# Altium integrated library Altium_WCAP-CSGP (rev22a).IntLib: 953 symbols (part 2 of 17)
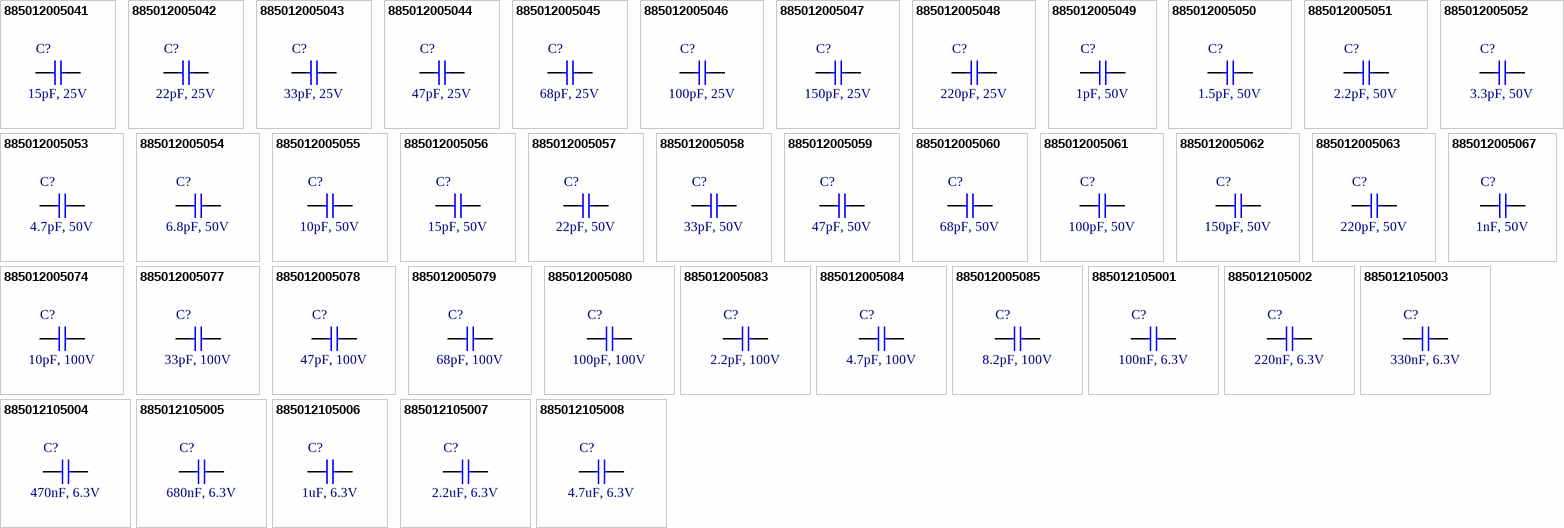
[diagram p28: symbols 885012005041 to 885012105008]

## 885012005061
designator C?, comment 100pF, 50V
WCAP-CSGP Multilayer Ceramic Chip Capacitor, General Purpose, size 0402, NP0, 100pF, 50V; Manufacturer: Wurth Elektronik; Manufacturer Part Number: 885012005061; Capacitance Tolerance: +/-5%; Isolation Resistance: 10GOhm; Q-Factor: 1000; Technical Reference: NP00402101J050DFCT10000; Capacitance: 100pF; Ceramic Type: NP0; ComponentLink1Description: Manufacturer Link; ComponentLink1URL: http://www.we-online.de; ComponentLink2Description: Datasheet; ComponentLink2URL: https://www.we-online.com/catalog/datasheet/885012005061.pdf; Height: 0.5mm; Length: 1mm; Mounting Technology: SMT; Operating Temperature max.: 125C; Operating Temperature min.: -55C; Packaging: Tape and Reel; Rated Voltage: 50V; Size: 0402; Width: 0.5mm
footprint WCAP-CSGP_0402_L1W0.5H0.5
pins: 1, 2

## 885012005062
designator C?, comment 150pF, 50V
WCAP-CSGP Multilayer Ceramic Chip Capacitor, General Purpose, size 0402, NP0, 150pF, 50V; Manufacturer: Wurth Elektronik; Manufacturer Part Number: 885012005062; Capacitance Tolerance: +/-5%; Isolation Resistance: 10GOhm; Q-Factor: 1000; Technical Reference: NP00402151J050DFCT10000; Capacitance: 150pF; Ceramic Type: NP0; ComponentLink1Description: Manufacturer Link; ComponentLink1URL: http://www.we-online.de; ComponentLink2Description: Datasheet; ComponentLink2URL: https://www.we-online.com/catalog/datasheet/885012005062.pdf; Height: 0.5mm; Length: 1mm; Mounting Technology: SMT; Operating Temperature max.: 125C; Operating Temperature min.: -55C; Packaging: Tape and Reel; Rated Voltage: 50V; Size: 0402; Width: 0.5mm
footprint WCAP-CSGP_0402_L1W0.5H0.5
pins: 1, 2

## 885012005063
designator C?, comment 220pF, 50V
WCAP-CSGP Multilayer Ceramic Chip Capacitor, General Purpose, size 0402, NP0, 220pF, 50V; Manufacturer: Wurth Elektronik; Manufacturer Part Number: 885012005063; Capacitance Tolerance: +/-5%; Isolation Resistance: 10GOhm; Q-Factor: 1000; Technical Reference: NP00402221J050DFCT10000; Capacitance: 220pF; Ceramic Type: NP0; ComponentLink1Description: Manufacturer Link; ComponentLink1URL: http://www.we-online.de; ComponentLink2Description: Datasheet; ComponentLink2URL: https://www.we-online.com/catalog/datasheet/885012005063.pdf; Height: 0.5mm; Length: 1mm; Mounting Technology: SMT; Operating Temperature max.: 125C; Operating Temperature min.: -55C; Packaging: Tape and Reel; Rated Voltage: 50V; Size: 0402; Width: 0.5mm
footprint WCAP-CSGP_0402_L1W0.5H0.5
pins: 1, 2

## 885012005067
designator C?, comment 1nF, 50V
WCAP-CSGP Multilayer Ceramic Chip Capacitor, General Purpose, size 0402, NP0, 1nF, 50V; Manufacturer: Wurth Elektronik; Manufacturer Part Number: 885012005067; Capacitance Tolerance: +/-5%; Isolation Resistance: 10GOhm; Q-Factor: 1000; Technical Reference: NP00402102J050DFCT10000; Capacitance: 1nF; Ceramic Type: NP0; ComponentLink1Description: Manufacturer Link; ComponentLink1URL: http://www.we-online.de; ComponentLink2Description: Datasheet; ComponentLink2URL: https://www.we-online.com/catalog/datasheet/885012005067.pdf; Height: 0.5mm; Length: 1mm; Mounting Technology: SMT; Operating Temperature max.: 125C; Operating Temperature min.: -55C; Packaging: Tape and Reel; Rated Voltage: 50V; Size: 0402; Width: 0.5mm
footprint WCAP-CSGP_0402_L1W0.5H0.5
pins: 1, 2

## 885012005074
designator C?, comment 10pF, 100V
WCAP-CSGP Multilayer Ceramic Chip Capacitor, General Purpose, size 0402, NP0, 10pF, 100V; Manufacturer: Wurth Elektronik; Manufacturer Part Number: 885012005074; Capacitance Tolerance: +/-5%; Isolation Resistance: 10GOhm; Q-Factor: 600; Technical Reference: NP00402100J100DFCT10000; Capacitance: 10pF; Ceramic Type: NP0; ComponentLink1Description: Manufacturer Link; ComponentLink1URL: http://www.we-online.de; ComponentLink2Description: Datasheet; ComponentLink2URL: https://www.we-online.com/catalog/datasheet/885012005074.pdf; Height: 0.5mm; Length: 1mm; Mounting Technology: SMT; Operating Temperature max.: 125C; Operating Temperature min.: -55C; Packaging: Tape and Reel; Rated Voltage: 100V; Size: 0402; Width: 0.5mm
footprint WCAP-CSGP_0402_L1W0.5H0.5
pins: 1, 2

## 885012005077
designator C?, comment 33pF, 100V
WCAP-CSGP Multilayer Ceramic Chip Capacitor, General Purpose, size 0402, NP0, 33pF, 100V; Manufacturer: Wurth Elektronik; Manufacturer Part Number: 885012005077; Capacitance Tolerance: +/-5%; Isolation Resistance: 10GOhm; Q-Factor: 1000; Technical Reference: NP00402330J100DFCT10000; Capacitance: 33pF; Ceramic Type: NP0; ComponentLink1Description: Manufacturer Link; ComponentLink1URL: http://www.we-online.de; ComponentLink2Description: Datasheet; ComponentLink2URL: https://www.we-online.com/catalog/datasheet/885012005077.pdf; Height: 0.5mm; Length: 1mm; Mounting Technology: SMT; Operating Temperature max.: 125C; Operating Temperature min.: -55C; Packaging: Tape and Reel; Rated Voltage: 100V; Size: 0402; Width: 0.5mm
footprint WCAP-CSGP_0402_L1W0.5H0.5
pins: 1, 2

## 885012005078
designator C?, comment 47pF, 100V
WCAP-CSGP Multilayer Ceramic Chip Capacitor, General Purpose, size 0402, NP0, 47pF, 100V; Manufacturer: Wurth Elektronik; Manufacturer Part Number: 885012005078; Capacitance Tolerance: +/-5%; Isolation Resistance: 10GOhm; Q-Factor: 1000; Technical Reference: NP00402470J100DFCT10000; Capacitance: 47pF; Ceramic Type: NP0; ComponentLink1Description: Manufacturer Link; ComponentLink1URL: http://www.we-online.de; ComponentLink2Description: Datasheet; ComponentLink2URL: https://www.we-online.com/catalog/datasheet/885012005078.pdf; Height: 0.5mm; Length: 1mm; Mounting Technology: SMT; Operating Temperature max.: 125C; Operating Temperature min.: -55C; Packaging: Tape and Reel; Rated Voltage: 100V; Size: 0402; Width: 0.5mm
footprint WCAP-CSGP_0402_L1W0.5H0.5
pins: 1, 2

## 885012005079
designator C?, comment 68pF, 100V
WCAP-CSGP Multilayer Ceramic Chip Capacitor, General Purpose, size 0402, NP0, 68pF, 100V; Manufacturer: Wurth Elektronik; Manufacturer Part Number: 885012005079; Capacitance Tolerance: +/-5%; Isolation Resistance: 10GOhm; Q-Factor: 1000; Technical Reference: NP00402680J100DFCT10000; Capacitance: 68pF; Ceramic Type: NP0; ComponentLink1Description: Manufacturer Link; ComponentLink1URL: http://www.we-online.de; ComponentLink2Description: Datasheet; ComponentLink2URL: https://www.we-online.com/catalog/datasheet/885012005079.pdf; Height: 0.5mm; Length: 1mm; Mounting Technology: SMT; Operating Temperature max.: 125C; Operating Temperature min.: -55C; Packaging: Tape and Reel; Rated Voltage: 100V; Size: 0402; Width: 0.5mm
footprint WCAP-CSGP_0402_L1W0.5H0.5
pins: 1, 2

## 885012005080
designator C?, comment 100pF, 100V
WCAP-CSGP Multilayer Ceramic Chip Capacitor, General Purpose, size 0402, NP0, 100pF, 100V; Manufacturer: Wurth Elektronik; Manufacturer Part Number: 885012005080; Capacitance Tolerance: +/-5%; Isolation Resistance: 10GOhm; Q-Factor: 1000; Technical Reference: NP00402101J100DFCT10000; Capacitance: 100pF; Ceramic Type: NP0; ComponentLink1Description: Manufacturer Link; ComponentLink1URL: http://www.we-online.de; ComponentLink2Description: Datasheet; ComponentLink2URL: https://www.we-online.com/catalog/datasheet/885012005080.pdf; Height: 0.5mm; Length: 1mm; Mounting Technology: SMT; Operating Temperature max.: 125C; Operating Temperature min.: -55C; Packaging: Tape and Reel; Rated Voltage: 100V; Size: 0402; Width: 0.5mm
footprint WCAP-CSGP_0402_L1W0.5H0.5
pins: 1, 2

## 885012005083
designator C?, comment 2.2pF, 100V
WCAP-CSGP Multilayer Ceramic Chip Capacitor, General Purpose, size 0402, NP0, 2.2pF, 100V; Manufacturer: Wurth Elektronik; Manufacturer Part Number: 885012005083; Capacitance Tolerance: +/-0.25pF; Isolation Resistance: 10GOhm; Q-Factor: 444; Technical Reference: NP004022R2C100DFCT10000; Capacitance: 2.2pF; Ceramic Type: NP0; ComponentLink1Description: Manufacturer Link; ComponentLink1URL: http://www.we-online.de; ComponentLink2Description: Datasheet; ComponentLink2URL: https://www.we-online.com/catalog/datasheet/885012005083.pdf; Height: 0.5mm; Length: 1mm; Mounting Technology: SMT; Operating Temperature max.: 125C; Operating Temperature min.: -55C; Packaging: Tape and Reel; Rated Voltage: 100V; Size: 0402; Width: 0.5mm
footprint WCAP-CSGP_0402_L1W0.5H0.5
pins: 1, 2

## 885012005084
designator C?, comment 4.7pF, 100V
WCAP-CSGP Multilayer Ceramic Chip Capacitor, General Purpose, size 0402, NP0, 4.7pF, 100V; Manufacturer: Wurth Elektronik; Manufacturer Part Number: 885012005084; Capacitance Tolerance: +/-0.25pF; Isolation Resistance: 10GOhm; Q-Factor: 494; Technical Reference: NP004024R7C100DFCT10000; Capacitance: 4.7pF; Ceramic Type: NP0; ComponentLink1Description: Manufacturer Link; ComponentLink1URL: http://www.we-online.de; ComponentLink2Description: Datasheet; ComponentLink2URL: https://www.we-online.com/catalog/datasheet/885012005084.pdf; Height: 0.5mm; Length: 1mm; Mounting Technology: SMT; Operating Temperature max.: 125C; Operating Temperature min.: -55C; Packaging: Tape and Reel; Rated Voltage: 100V; Size: 0402; Width: 0.5mm
footprint WCAP-CSGP_0402_L1W0.5H0.5
pins: 1, 2

## 885012005085
designator C?, comment 8.2pF, 100V
WCAP-CSGP Multilayer Ceramic Chip Capacitor, General Purpose, size 0402, NP0, 8.2pF, 100V; Manufacturer: Wurth Elektronik; Manufacturer Part Number: 885012005085; Capacitance Tolerance: +/-0.5pF; Isolation Resistance: 10GOhm; Q-Factor: 564; Technical Reference: NP004028R2D100DFCT10000; Capacitance: 8.2pF; Ceramic Type: NP0; ComponentLink1Description: Manufacturer Link; ComponentLink1URL: http://www.we-online.de; ComponentLink2Description: Datasheet; ComponentLink2URL: https://www.we-online.com/catalog/datasheet/885012005085.pdf; Height: 0.5mm; Length: 1mm; Mounting Technology: SMT; Operating Temperature max.: 125C; Operating Temperature min.: -55C; Packaging: Tape and Reel; Rated Voltage: 100V; Size: 0402; Width: 0.5mm
footprint WCAP-CSGP_0402_L1W0.5H0.5
pins: 1, 2

## 885012105001
designator C?, comment 100nF, 6.3V
WCAP-CSGP Multilayer Ceramic Chip Capacitor, General Purpose, size 0402, X5R, 100nF, 6.3V; Manufacturer: Wurth Elektronik; Manufacturer Part Number: 885012105001; Capacitance Tolerance: +/-20%; Dissipation Factor: 10%; Isolation Resistance: 1GOhm; Technical Reference: X5R0402104M6R3DFCT10000; Capacitance: 100nF; Ceramic Type: X5R; ComponentLink1Description: Manufacturer Link; ComponentLink1URL: http://www.we-online.de; ComponentLink2Description: Datasheet; ComponentLink2URL: https://www.we-online.com/catalog/datasheet/885012105001.pdf; Height: 0.5mm; Length: 1mm; Mounting Technology: SMT; Operating Temperature max.: 85C; Operating Temperature min.: -55C; Packaging: Tape and Reel; Rated Voltage: 6.3V; Size: 0402; Width: 0.5mm
footprint WCAP-CSGP_0402_L1W0.5H0.5
pins: 1, 2

## 885012105002
designator C?, comment 220nF, 6.3V
WCAP-CSGP Multilayer Ceramic Chip Capacitor, General Purpose, size 0402, X5R, 220nF, 6.3V; Manufacturer: Wurth Elektronik; Manufacturer Part Number: 885012105002; Capacitance Tolerance: +/-20%; Dissipation Factor: 10%; Isolation Resistance: 0.5GOhm; Technical Reference: X5R0402224M6R3DFCT10000; Capacitance: 220nF; Ceramic Type: X5R; ComponentLink1Description: Manufacturer Link; ComponentLink1URL: http://www.we-online.de; ComponentLink2Description: Datasheet; ComponentLink2URL: https://www.we-online.com/catalog/datasheet/885012105002.pdf; Height: 0.5mm; Length: 1mm; Mounting Technology: SMT; Operating Temperature max.: 85C; Operating Temperature min.: -55C; Packaging: Tape and Reel; Rated Voltage: 6.3V; Size: 0402; Width: 0.5mm
footprint WCAP-CSGP_0402_L1W0.5H0.5
pins: 1, 2

## 885012105003
designator C?, comment 330nF, 6.3V
WCAP-CSGP Multilayer Ceramic Chip Capacitor, General Purpose, size 0402, X5R, 330nF, 6.3V; Manufacturer: Wurth Elektronik; Manufacturer Part Number: 885012105003; Capacitance Tolerance: +/-20%; Dissipation Factor: 10%; Isolation Resistance: 0.3GOhm; Technical Reference: X5R0402334M6R3DFCT10000; Capacitance: 330nF; Ceramic Type: X5R; ComponentLink1Description: Manufacturer Link; ComponentLink1URL: http://www.we-online.de; ComponentLink2Description: Datasheet; ComponentLink2URL: https://www.we-online.com/catalog/datasheet/885012105003.pdf; Height: 0.5mm; Length: 1mm; Mounting Technology: SMT; Operating Temperature max.: 85C; Operating Temperature min.: -55C; Packaging: Tape and Reel; Rated Voltage: 6.3V; Size: 0402; Width: 0.5mm
footprint WCAP-CSGP_0402_L1W0.5H0.5
pins: 1, 2

## 885012105004
designator C?, comment 470nF, 6.3V
WCAP-CSGP Multilayer Ceramic Chip Capacitor, General Purpose, size 0402, X5R, 470nF, 6.3V; Manufacturer: Wurth Elektronik; Manufacturer Part Number: 885012105004; Capacitance Tolerance: +/-20%; Dissipation Factor: 10%; Isolation Resistance: 0.2GOhm; Technical Reference: X5R0402474M6R3DFCT10000; Capacitance: 470nF; Ceramic Type: X5R; ComponentLink1Description: Manufacturer Link; ComponentLink1URL: http://www.we-online.de; ComponentLink2Description: Datasheet; ComponentLink2URL: https://www.we-online.com/catalog/datasheet/885012105004.pdf; Height: 0.5mm; Length: 1mm; Mounting Technology: SMT; Operating Temperature max.: 85C; Operating Temperature min.: -55C; Packaging: Tape and Reel; Rated Voltage: 6.3V; Size: 0402; Width: 0.5mm
footprint WCAP-CSGP_0402_L1W0.5H0.5
pins: 1, 2

## 885012105005
designator C?, comment 680nF, 6.3V
WCAP-CSGP Multilayer Ceramic Chip Capacitor, General Purpose, size 0402, X5R, 680nF, 6.3V; Manufacturer: Wurth Elektronik; Manufacturer Part Number: 885012105005; Capacitance Tolerance: +/-20%; Dissipation Factor: 10%; Isolation Resistance: 0.2GOhm; Technical Reference: X5R0402684M6R3DFCT10000; Capacitance: 680nF; Ceramic Type: X5R; ComponentLink1Description: Manufacturer Link; ComponentLink1URL: http://www.we-online.de; ComponentLink2Description: Datasheet; ComponentLink2URL: https://www.we-online.com/catalog/datasheet/885012105005.pdf; Height: 0.5mm; Length: 1mm; Mounting Technology: SMT; Operating Temperature max.: 85C; Operating Temperature min.: -55C; Packaging: Tape and Reel; Rated Voltage: 6.3V; Size: 0402; Width: 0.5mm
footprint WCAP-CSGP_0402_L1W0.5H0.5
pins: 1, 2

## 885012105006
designator C?, comment 1uF, 6.3V
WCAP-CSGP Multilayer Ceramic Chip Capacitor, General Purpose, size 0402, X5R, 1uF, 6.3V; Manufacturer: Wurth Elektronik; Manufacturer Part Number: 885012105006; Capacitance Tolerance: +/-20%; Dissipation Factor: 15%; Isolation Resistance: 0.1GOhm; Technical Reference: X5R0402105M6R3DFCT10000; Capacitance: 1uF; Ceramic Type: X5R; ComponentLink1Description: Manufacturer Link; ComponentLink1URL: http://www.we-online.de; ComponentLink2Description: Datasheet; ComponentLink2URL: https://www.we-online.com/catalog/datasheet/885012105006.pdf; Height: 0.5mm; Length: 1mm; Mounting Technology: SMT; Operating Temperature max.: 85C; Operating Temperature min.: -55C; Packaging: Tape and Reel; Rated Voltage: 6.3V; Size: 0402; Width: 0.5mm
footprint WCAP-CSGP_0402_L1W0.5H0.5
pins: 1, 2

## 885012105007
designator C?, comment 2.2uF, 6.3V
WCAP-CSGP Multilayer Ceramic Chip Capacitor, General Purpose, size 0402, X5R, 2.2uF, 6.3V; Manufacturer: Wurth Elektronik; Manufacturer Part Number: 885012105007; Capacitance Tolerance: +/-20%; Dissipation Factor: 10%; Isolation Resistance: 0.05GOhm; Technical Reference: X5R0402225M6R3DFCT10000; Capacitance: 2.2uF; Ceramic Type: X5R; ComponentLink1Description: Manufacturer Link; ComponentLink1URL: http://www.we-online.de; ComponentLink2Description: Datasheet; ComponentLink2URL: https://www.we-online.com/catalog/datasheet/885012105007.pdf; Height: 0.5mm; Length: 1mm; Mounting Technology: SMT; Operating Temperature max.: 85C; Operating Temperature min.: -55C; Packaging: Tape and Reel; Rated Voltage: 6.3V; Size: 0402; Width: 0.5mm
footprint WCAP-CSGP_0402_L1W0.5H0.5
pins: 1, 2

## 885012105008
designator C?, comment 4.7uF, 6.3V
WCAP-CSGP Multilayer Ceramic Chip Capacitor, General Purpose, size 0402, X5R, 4.7uF, 6.3V; Manufacturer: Wurth Elektronik; Manufacturer Part Number: 885012105008; Capacitance Tolerance: +/-20%; Dissipation Factor: 10%; Isolation Resistance: 0.02GOhm; Technical Reference: X5R0402475M6R3DFCT10000; Capacitance: 4.7uF; Ceramic Type: X5R; ComponentLink1Description: Manufacturer Link; ComponentLink1URL: http://www.we-online.de; ComponentLink2Description: Datasheet; ComponentLink2URL: https://www.we-online.com/catalog/datasheet/885012105008.pdf; Height: 0.5mm; Length: 1mm; Mounting Technology: SMT; Operating Temperature max.: 85C; Operating Temperature min.: -55C; Packaging: Tape and Reel; Rated Voltage: 6.3V; Size: 0402; Width: 0.5mm
footprint WCAP-CSGP_0402_L1W0.5H0.5
pins: 1, 2

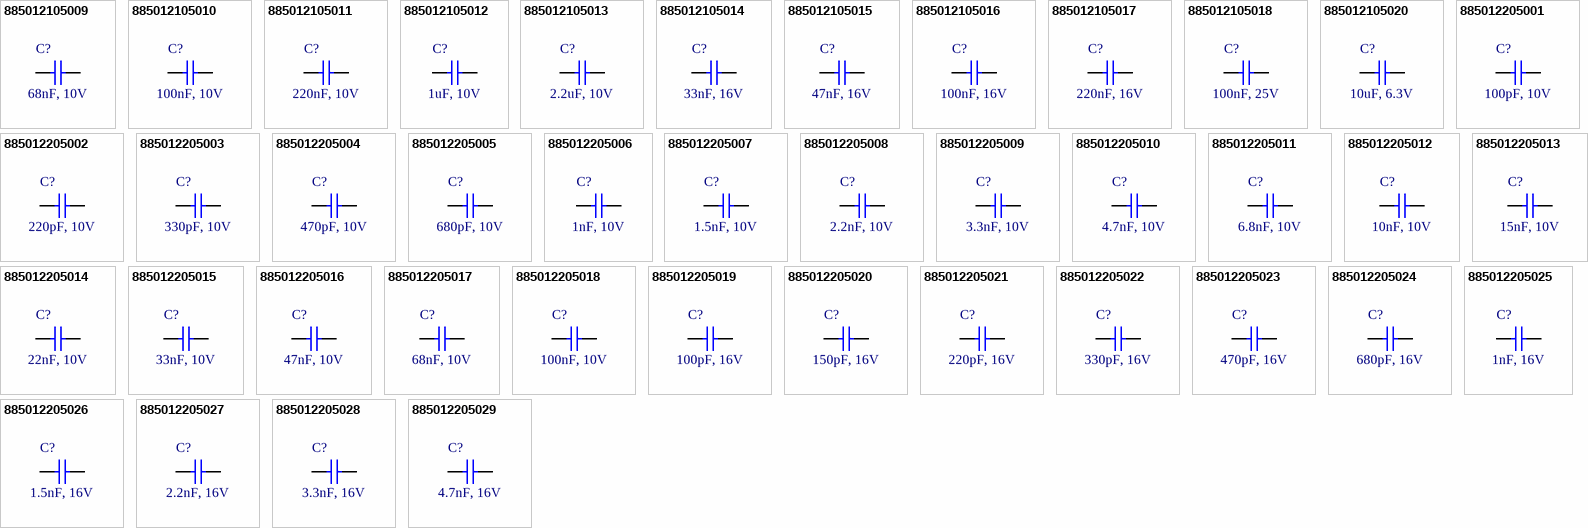
[diagram p2: symbols 885012105009 to 885012205029]

## 885012105009
designator C?, comment 68nF, 10V
WCAP-CSGP Multilayer Ceramic Chip Capacitor, General Purpose, size 0402, X5R, 68nF, 10V; Manufacturer: Wurth Elektronik; Manufacturer Part Number: 885012105009; Capacitance Tolerance: +/-20%; Dissipation Factor: 5%; Isolation Resistance: 7.4GOhm; Technical Reference: X5R0402683M010DFCT10000; Capacitance: 68nF; Ceramic Type: X5R; ComponentLink1Description: Manufacturer Link; ComponentLink1URL: http://www.we-online.de; ComponentLink2Description: Datasheet; ComponentLink2URL: https://www.we-online.com/catalog/datasheet/885012105009.pdf; Height: 0.5mm; Length: 1mm; Mounting Technology: SMT; Operating Temperature max.: 85C; Operating Temperature min.: -55C; Packaging: Tape and Reel; Rated Voltage: 10V; Size: 0402; Width: 0.5mm
footprint WCAP-CSGP_0402_L1W0.5H0.5
pins: 1, 2

## 885012105010
designator C?, comment 100nF, 10V
WCAP-CSGP Multilayer Ceramic Chip Capacitor, General Purpose, size 0402, X5R, 100nF, 10V; Manufacturer: Wurth Elektronik; Manufacturer Part Number: 885012105010; Capacitance Tolerance: +/-20%; Dissipation Factor: 5%; Isolation Resistance: 5GOhm; Technical Reference: X5R0402104M010DFCT10000; Capacitance: 100nF; Ceramic Type: X5R; ComponentLink1Description: Manufacturer Link; ComponentLink1URL: http://www.we-online.de; ComponentLink2Description: Datasheet; ComponentLink2URL: https://www.we-online.com/catalog/datasheet/885012105010.pdf; Height: 0.5mm; Length: 1mm; Mounting Technology: SMT; Operating Temperature max.: 85C; Operating Temperature min.: -55C; Packaging: Tape and Reel; Rated Voltage: 10V; Size: 0402; Width: 0.5mm
footprint WCAP-CSGP_0402_L1W0.5H0.5
pins: 1, 2

## 885012105011
designator C?, comment 220nF, 10V
WCAP-CSGP Multilayer Ceramic Chip Capacitor, General Purpose, size 0402, X5R, 220nF, 10V; Manufacturer: Wurth Elektronik; Manufacturer Part Number: 885012105011; Capacitance Tolerance: +/-20%; Dissipation Factor: 5%; Isolation Resistance: 2.3GOhm; Technical Reference: X5R0402224M010DFCT10000; Capacitance: 220nF; Ceramic Type: X5R; ComponentLink1Description: Manufacturer Link; ComponentLink1URL: http://www.we-online.de; ComponentLink2Description: Datasheet; ComponentLink2URL: https://www.we-online.com/catalog/datasheet/885012105011.pdf; Height: 0.5mm; Length: 1mm; Mounting Technology: SMT; Operating Temperature max.: 85C; Operating Temperature min.: -55C; Packaging: Tape and Reel; Rated Voltage: 10V; Size: 0402; Width: 0.5mm
footprint WCAP-CSGP_0402_L1W0.5H0.5
pins: 1, 2

## 885012105012
designator C?, comment 1uF, 10V
WCAP-CSGP Multilayer Ceramic Chip Capacitor, General Purpose, size 0402, X5R, 1uF, 10V; Manufacturer: Wurth Elektronik; Manufacturer Part Number: 885012105012; Capacitance Tolerance: +/-20%; Dissipation Factor: 15%; Isolation Resistance: 0.05GOhm; Technical Reference: X5R0402105M010DFCT10000; Capacitance: 1uF; Ceramic Type: X5R; ComponentLink1Description: Manufacturer Link; ComponentLink1URL: http://www.we-online.de; ComponentLink2Description: Datasheet; ComponentLink2URL: https://www.we-online.com/catalog/datasheet/885012105012.pdf; Height: 0.5mm; Length: 1mm; Mounting Technology: SMT; Operating Temperature max.: 85C; Operating Temperature min.: -55C; Packaging: Tape and Reel; Rated Voltage: 10V; Size: 0402; Width: 0.5mm
footprint WCAP-CSGP_0402_L1W0.5H0.5
pins: 1, 2

## 885012105013
designator C?, comment 2.2uF, 10V
WCAP-CSGP Multilayer Ceramic Chip Capacitor, General Purpose, size 0402, X5R, 2.2uF, 10V; Manufacturer: Wurth Elektronik; Manufacturer Part Number: 885012105013; Capacitance Tolerance: +/-20%; Dissipation Factor: 10%; Isolation Resistance: 0.05GOhm; Technical Reference: X5R0402225M010DFCT10000; Capacitance: 2.2uF; Ceramic Type: X5R; ComponentLink1Description: Manufacturer Link; ComponentLink1URL: http://www.we-online.de; ComponentLink2Description: Datasheet; ComponentLink2URL: https://www.we-online.com/catalog/datasheet/885012105013.pdf; Height: 0.5mm; Length: 1mm; Mounting Technology: SMT; Operating Temperature max.: 85C; Operating Temperature min.: -55C; Packaging: Tape and Reel; Rated Voltage: 10V; Size: 0402; Width: 0.5mm
footprint WCAP-CSGP_0402_L1W0.5H0.5
pins: 1, 2

## 885012105014
designator C?, comment 33nF, 16V
WCAP-CSGP Multilayer Ceramic Chip Capacitor, General Purpose, size 0402, X5R, 33nF, 16V; Manufacturer: Wurth Elektronik; Manufacturer Part Number: 885012105014; Capacitance Tolerance: +/-20%; Dissipation Factor: 5%; Isolation Resistance: 10GOhm; Technical Reference: X5R0402333M016DFCT10000; Capacitance: 33nF; Ceramic Type: X5R; ComponentLink1Description: Manufacturer Link; ComponentLink1URL: http://www.we-online.de; ComponentLink2Description: Datasheet; ComponentLink2URL: https://www.we-online.com/catalog/datasheet/885012105014.pdf; Height: 0.5mm; Length: 1mm; Mounting Technology: SMT; Operating Temperature max.: 85C; Operating Temperature min.: -55C; Packaging: Tape and Reel; Rated Voltage: 16V; Size: 0402; Width: 0.5mm
footprint WCAP-CSGP_0402_L1W0.5H0.5
pins: 1, 2

## 885012105015
designator C?, comment 47nF, 16V
WCAP-CSGP Multilayer Ceramic Chip Capacitor, General Purpose, size 0402, X5R, 47nF, 16V; Manufacturer: Wurth Elektronik; Manufacturer Part Number: 885012105015; Capacitance Tolerance: +/-20%; Dissipation Factor: 5%; Isolation Resistance: 10GOhm; Technical Reference: X5R0402473M016DFCT10000; Capacitance: 47nF; Ceramic Type: X5R; ComponentLink1Description: Manufacturer Link; ComponentLink1URL: http://www.we-online.de; ComponentLink2Description: Datasheet; ComponentLink2URL: https://www.we-online.com/catalog/datasheet/885012105015.pdf; Height: 0.5mm; Length: 1mm; Mounting Technology: SMT; Operating Temperature max.: 85C; Operating Temperature min.: -55C; Packaging: Tape and Reel; Rated Voltage: 16V; Size: 0402; Width: 0.5mm
footprint WCAP-CSGP_0402_L1W0.5H0.5
pins: 1, 2

## 885012105016
designator C?, comment 100nF, 16V
WCAP-CSGP Multilayer Ceramic Chip Capacitor, General Purpose, size 0402, X5R, 100nF, 16V; Manufacturer: Wurth Elektronik; Manufacturer Part Number: 885012105016; Capacitance Tolerance: +/-20%; Dissipation Factor: 5%; Isolation Resistance: 5GOhm; Technical Reference: X5R0402104M016DFCT10000; Capacitance: 100nF; Ceramic Type: X5R; ComponentLink1Description: Manufacturer Link; ComponentLink1URL: http://www.we-online.de; ComponentLink2Description: Datasheet; ComponentLink2URL: https://www.we-online.com/catalog/datasheet/885012105016.pdf; Height: 0.5mm; Length: 1mm; Mounting Technology: SMT; Operating Temperature max.: 85C; Operating Temperature min.: -55C; Packaging: Tape and Reel; Rated Voltage: 16V; Size: 0402; Width: 0.5mm
footprint WCAP-CSGP_0402_L1W0.5H0.5
pins: 1, 2

## 885012105017
designator C?, comment 220nF, 16V
WCAP-CSGP Multilayer Ceramic Chip Capacitor, General Purpose, size 0402, X5R, 220nF, 16V; Manufacturer: Wurth Elektronik; Manufacturer Part Number: 885012105017; Capacitance Tolerance: +/-20%; Dissipation Factor: 10%; Isolation Resistance: 0.5GOhm; Technical Reference: X5R0402224M016DFCT10000; Capacitance: 220nF; Ceramic Type: X5R; ComponentLink1Description: Manufacturer Link; ComponentLink1URL: http://www.we-online.de; ComponentLink2Description: Datasheet; ComponentLink2URL: https://www.we-online.com/catalog/datasheet/885012105017.pdf; Height: 0.5mm; Length: 1mm; Mounting Technology: SMT; Operating Temperature max.: 85C; Operating Temperature min.: -55C; Packaging: Tape and Reel; Rated Voltage: 16V; Size: 0402; Width: 0.5mm
footprint WCAP-CSGP_0402_L1W0.5H0.5
pins: 1, 2

## 885012105018
designator C?, comment 100nF, 25V
WCAP-CSGP Multilayer Ceramic Chip Capacitor, General Purpose, size 0402, X5R, 100nF, 25V; Manufacturer: Wurth Elektronik; Manufacturer Part Number: 885012105018; Capacitance Tolerance: +/-20%; Dissipation Factor: 10%; Isolation Resistance: 5GOhm; Technical Reference: X5R0402104M025DFCT10000; Capacitance: 100nF; Ceramic Type: X5R; ComponentLink1Description: Manufacturer Link; ComponentLink1URL: http://www.we-online.de; ComponentLink2Description: Datasheet; ComponentLink2URL: https://www.we-online.com/catalog/datasheet/885012105018.pdf; Height: 0.5mm; Length: 1mm; Mounting Technology: SMT; Operating Temperature max.: 85C; Operating Temperature min.: -55C; Packaging: Tape and Reel; Rated Voltage: 25V; Size: 0402; Width: 0.5mm
footprint WCAP-CSGP_0402_L1W0.5H0.5
pins: 1, 2

## 885012105020
designator C?, comment 10uF, 6.3V
WCAP-CSGP Multilayer Ceramic Chip Capacitor, General Purpose, size 0402, X5R, 10uF, 6.3V; Manufacturer: Wurth Elektronik; Manufacturer Part Number: 885012105020; Capacitance Tolerance: +/20%; Dissipation Factor: 10%; Isolation Resistance: 0.01GOhm; Technical Reference: X5R0402106M6R3DFCT10000; Capacitance: 10uF; Ceramic Type: X5R; ComponentLink1Description: Manufacturer Link; ComponentLink1URL: http://www.we-online.de; ComponentLink2Description: Datasheet; ComponentLink2URL: https://www.we-online.com/catalog/datasheet/885012105020.pdf; Height: 0.5mm; Length: 1mm; Mounting Technology: SMT; Operating Temperature max.: 85C; Operating Temperature min.: -55C; Packaging: Tape and Reel; Rated Voltage: 6.3V; Size: 0402; Width: 0.5mm
footprint WCAP-CSGP_0402_L1W0.5H0.5
pins: 1, 2

## 885012205001
designator C?, comment 100pF, 10V
WCAP-CSGP Multilayer Ceramic Chip Capacitor, General Purpose, size 0402, X7R, 100pF, 10V; Manufacturer: Wurth Elektronik; Manufacturer Part Number: 885012205001; Capacitance Tolerance: +/-10%; Dissipation Factor: 5%; Isolation Resistance: 10GOhm; Technical Reference: X7R0402101K010DFCT10000; Capacitance: 100pF; Ceramic Type: X7R; ComponentLink1Description: Manufacturer Link; ComponentLink1URL: http://www.we-online.de; ComponentLink2Description: Datasheet; ComponentLink2URL: https://www.we-online.com/catalog/datasheet/885012205001.pdf; Height: 0.5mm; Length: 1mm; Mounting Technology: SMT; Operating Temperature max.: 125C; Operating Temperature min.: -55C; Packaging: Tape and Reel; Rated Voltage: 10V; Size: 0402; Width: 0.5mm
footprint WCAP-CSGP_0402_L1W0.5H0.5
pins: 1, 2

## 885012205002
designator C?, comment 220pF, 10V
WCAP-CSGP Multilayer Ceramic Chip Capacitor, General Purpose, size 0402, X7R, 220pF, 10V; Manufacturer: Wurth Elektronik; Manufacturer Part Number: 885012205002; Capacitance Tolerance: +/-10%; Dissipation Factor: 5%; Isolation Resistance: 10GOhm; Technical Reference: X7R0402221K010DFCT10000; Capacitance: 220pF; Ceramic Type: X7R; ComponentLink1Description: Manufacturer Link; ComponentLink1URL: http://www.we-online.de; ComponentLink2Description: Datasheet; ComponentLink2URL: https://www.we-online.com/catalog/datasheet/885012205002.pdf; Height: 0.5mm; Length: 1mm; Mounting Technology: SMT; Operating Temperature max.: 125C; Operating Temperature min.: -55C; Packaging: Tape and Reel; Rated Voltage: 10V; Size: 0402; Width: 0.5mm
footprint WCAP-CSGP_0402_L1W0.5H0.5
pins: 1, 2

## 885012205003
designator C?, comment 330pF, 10V
WCAP-CSGP Multilayer Ceramic Chip Capacitor, General Purpose, size 0402, X7R, 330pF, 10V; Manufacturer: Wurth Elektronik; Manufacturer Part Number: 885012205003; Capacitance Tolerance: +/-10%; Dissipation Factor: 5%; Isolation Resistance: 10GOhm; Technical Reference: X7R0402331K010DFCT10000; Capacitance: 330pF; Ceramic Type: X7R; ComponentLink1Description: Manufacturer Link; ComponentLink1URL: http://www.we-online.de; ComponentLink2Description: Datasheet; ComponentLink2URL: https://www.we-online.com/catalog/datasheet/885012205003.pdf; Height: 0.5mm; Length: 1mm; Mounting Technology: SMT; Operating Temperature max.: 125C; Operating Temperature min.: -55C; Packaging: Tape and Reel; Rated Voltage: 10V; Size: 0402; Width: 0.5mm
footprint WCAP-CSGP_0402_L1W0.5H0.5
pins: 1, 2

## 885012205004
designator C?, comment 470pF, 10V
WCAP-CSGP Multilayer Ceramic Chip Capacitor, General Purpose, size 0402, X7R, 470pF, 10V; Manufacturer: Wurth Elektronik; Manufacturer Part Number: 885012205004; Capacitance Tolerance: +/-10%; Dissipation Factor: 5%; Isolation Resistance: 10GOhm; Technical Reference: X7R0402471K010DFCT10000; Capacitance: 470pF; Ceramic Type: X7R; ComponentLink1Description: Manufacturer Link; ComponentLink1URL: http://www.we-online.de; ComponentLink2Description: Datasheet; ComponentLink2URL: https://www.we-online.com/catalog/datasheet/885012205004.pdf; Height: 0.5mm; Length: 1mm; Mounting Technology: SMT; Operating Temperature max.: 125C; Operating Temperature min.: -55C; Packaging: Tape and Reel; Rated Voltage: 10V; Size: 0402; Width: 0.5mm
footprint WCAP-CSGP_0402_L1W0.5H0.5
pins: 1, 2

## 885012205005
designator C?, comment 680pF, 10V
WCAP-CSGP Multilayer Ceramic Chip Capacitor, General Purpose, size 0402, X7R, 680pF, 10V; Manufacturer: Wurth Elektronik; Manufacturer Part Number: 885012205005; Capacitance Tolerance: +/-10%; Dissipation Factor: 5%; Isolation Resistance: 10GOhm; Technical Reference: X7R0402681K010DFCT10000; Capacitance: 680pF; Ceramic Type: X7R; ComponentLink1Description: Manufacturer Link; ComponentLink1URL: http://www.we-online.de; ComponentLink2Description: Datasheet; ComponentLink2URL: https://www.we-online.com/catalog/datasheet/885012205005.pdf; Height: 0.5mm; Length: 1mm; Mounting Technology: SMT; Operating Temperature max.: 125C; Operating Temperature min.: -55C; Packaging: Tape and Reel; Rated Voltage: 10V; Size: 0402; Width: 0.5mm
footprint WCAP-CSGP_0402_L1W0.5H0.5
pins: 1, 2

## 885012205006
designator C?, comment 1nF, 10V
WCAP-CSGP Multilayer Ceramic Chip Capacitor, General Purpose, size 0402, X7R, 1nF, 10V; Manufacturer: Wurth Elektronik; Manufacturer Part Number: 885012205006; Capacitance Tolerance: +/-10%; Dissipation Factor: 5%; Isolation Resistance: 10GOhm; Technical Reference: X7R0402102K010DFCT10000; Capacitance: 1nF; Ceramic Type: X7R; ComponentLink1Description: Manufacturer Link; ComponentLink1URL: http://www.we-online.de; ComponentLink2Description: Datasheet; ComponentLink2URL: https://www.we-online.com/catalog/datasheet/885012205006.pdf; Height: 0.5mm; Length: 1mm; Mounting Technology: SMT; Operating Temperature max.: 125C; Operating Temperature min.: -55C; Packaging: Tape and Reel; Rated Voltage: 10V; Size: 0402; Width: 0.5mm
footprint WCAP-CSGP_0402_L1W0.5H0.5
pins: 1, 2

## 885012205007
designator C?, comment 1.5nF, 10V
WCAP-CSGP Multilayer Ceramic Chip Capacitor, General Purpose, size 0402, X7R, 1.5nF, 10V; Manufacturer: Wurth Elektronik; Manufacturer Part Number: 885012205007; Capacitance Tolerance: +/-10%; Dissipation Factor: 5%; Isolation Resistance: 10GOhm; Technical Reference: X7R0402152K010DFCT10000; Capacitance: 1.5nF; Ceramic Type: X7R; ComponentLink1Description: Manufacturer Link; ComponentLink1URL: http://www.we-online.de; ComponentLink2Description: Datasheet; ComponentLink2URL: https://www.we-online.com/catalog/datasheet/885012205007.pdf; Height: 0.5mm; Length: 1mm; Mounting Technology: SMT; Operating Temperature max.: 125C; Operating Temperature min.: -55C; Packaging: Tape and Reel; Rated Voltage: 10V; Size: 0402; Width: 0.5mm
footprint WCAP-CSGP_0402_L1W0.5H0.5
pins: 1, 2

## 885012205008
designator C?, comment 2.2nF, 10V
WCAP-CSGP Multilayer Ceramic Chip Capacitor, General Purpose, size 0402, X7R, 2.2nF, 10V; Manufacturer: Wurth Elektronik; Manufacturer Part Number: 885012205008; Capacitance Tolerance: +/-10%; Dissipation Factor: 5%; Isolation Resistance: 10GOhm; Technical Reference: X7R0402222K010DFCT10000; Capacitance: 2.2nF; Ceramic Type: X7R; ComponentLink1Description: Manufacturer Link; ComponentLink1URL: http://www.we-online.de; ComponentLink2Description: Datasheet; ComponentLink2URL: https://www.we-online.com/catalog/datasheet/885012205008.pdf; Height: 0.5mm; Length: 1mm; Mounting Technology: SMT; Operating Temperature max.: 125C; Operating Temperature min.: -55C; Packaging: Tape and Reel; Rated Voltage: 10V; Size: 0402; Width: 0.5mm
footprint WCAP-CSGP_0402_L1W0.5H0.5
pins: 1, 2

## 885012205009
designator C?, comment 3.3nF, 10V
WCAP-CSGP Multilayer Ceramic Chip Capacitor, General Purpose, size 0402, X7R, 3.3nF, 10V; Manufacturer: Wurth Elektronik; Manufacturer Part Number: 885012205009; Capacitance Tolerance: +/-10%; Dissipation Factor: 5%; Isolation Resistance: 10GOhm; Technical Reference: X7R0402332K010DFCT10000; Capacitance: 3.3nF; Ceramic Type: X7R; ComponentLink1Description: Manufacturer Link; ComponentLink1URL: http://www.we-online.de; ComponentLink2Description: Datasheet; ComponentLink2URL: https://www.we-online.com/catalog/datasheet/885012205009.pdf; Height: 0.5mm; Length: 1mm; Mounting Technology: SMT; Operating Temperature max.: 125C; Operating Temperature min.: -55C; Packaging: Tape and Reel; Rated Voltage: 10V; Size: 0402; Width: 0.5mm
footprint WCAP-CSGP_0402_L1W0.5H0.5
pins: 1, 2

## 885012205010
designator C?, comment 4.7nF, 10V
WCAP-CSGP Multilayer Ceramic Chip Capacitor, General Purpose, size 0402, X7R, 4.7nF, 10V; Manufacturer: Wurth Elektronik; Manufacturer Part Number: 885012205010; Capacitance Tolerance: +/-10%; Dissipation Factor: 5%; Isolation Resistance: 10GOhm; Technical Reference: X7R0402472K010DFCT10000; Capacitance: 4.7nF; Ceramic Type: X7R; ComponentLink1Description: Manufacturer Link; ComponentLink1URL: http://www.we-online.de; ComponentLink2Description: Datasheet; ComponentLink2URL: https://www.we-online.com/catalog/datasheet/885012205010.pdf; Height: 0.5mm; Length: 1mm; Mounting Technology: SMT; Operating Temperature max.: 125C; Operating Temperature min.: -55C; Packaging: Tape and Reel; Rated Voltage: 10V; Size: 0402; Width: 0.5mm
footprint WCAP-CSGP_0402_L1W0.5H0.5
pins: 1, 2

## 885012205011
designator C?, comment 6.8nF, 10V
WCAP-CSGP Multilayer Ceramic Chip Capacitor, General Purpose, size 0402, X7R, 6.8nF, 10V; Manufacturer: Wurth Elektronik; Manufacturer Part Number: 885012205011; Capacitance Tolerance: +/-10%; Dissipation Factor: 5%; Isolation Resistance: 10GOhm; Technical Reference: X7R0402682K010DFCT10000; Capacitance: 6.8nF; Ceramic Type: X7R; ComponentLink1Description: Manufacturer Link; ComponentLink1URL: http://www.we-online.de; ComponentLink2Description: Datasheet; ComponentLink2URL: https://www.we-online.com/catalog/datasheet/885012205011.pdf; Height: 0.5mm; Length: 1mm; Mounting Technology: SMT; Operating Temperature max.: 125C; Operating Temperature min.: -55C; Packaging: Tape and Reel; Rated Voltage: 10V; Size: 0402; Width: 0.5mm
footprint WCAP-CSGP_0402_L1W0.5H0.5
pins: 1, 2

## 885012205012
designator C?, comment 10nF, 10V
WCAP-CSGP Multilayer Ceramic Chip Capacitor, General Purpose, size 0402, X7R, 10nF, 10V; Manufacturer: Wurth Elektronik; Manufacturer Part Number: 885012205012; Capacitance Tolerance: +/-10%; Dissipation Factor: 5%; Isolation Resistance: 10GOhm; Technical Reference: X7R0402103K010DFCT10000; Capacitance: 10nF; Ceramic Type: X7R; ComponentLink1Description: Manufacturer Link; ComponentLink1URL: http://www.we-online.de; ComponentLink2Description: Datasheet; ComponentLink2URL: https://www.we-online.com/catalog/datasheet/885012205012.pdf; Height: 0.5mm; Length: 1mm; Mounting Technology: SMT; Operating Temperature max.: 125C; Operating Temperature min.: -55C; Packaging: Tape and Reel; Rated Voltage: 10V; Size: 0402; Width: 0.5mm
footprint WCAP-CSGP_0402_L1W0.5H0.5
pins: 1, 2

## 885012205013
designator C?, comment 15nF, 10V
WCAP-CSGP Multilayer Ceramic Chip Capacitor, General Purpose, size 0402, X7R, 15nF, 10V; Manufacturer: Wurth Elektronik; Manufacturer Part Number: 885012205013; Capacitance Tolerance: +/-10%; Dissipation Factor: 5%; Isolation Resistance: 10GOhm; Technical Reference: X7R0402153K010DFCT10000; Capacitance: 15nF; Ceramic Type: X7R; ComponentLink1Description: Manufacturer Link; ComponentLink1URL: http://www.we-online.de; ComponentLink2Description: Datasheet; ComponentLink2URL: https://www.we-online.com/catalog/datasheet/885012205013.pdf; Height: 0.5mm; Length: 1mm; Mounting Technology: SMT; Operating Temperature max.: 125C; Operating Temperature min.: -55C; Packaging: Tape and Reel; Rated Voltage: 10V; Size: 0402; Width: 0.5mm
footprint WCAP-CSGP_0402_L1W0.5H0.5
pins: 1, 2

## 885012205014
designator C?, comment 22nF, 10V
WCAP-CSGP Multilayer Ceramic Chip Capacitor, General Purpose, size 0402, X7R, 22nF, 10V; Manufacturer: Wurth Elektronik; Manufacturer Part Number: 885012205014; Capacitance Tolerance: +/-10%; Dissipation Factor: 5%; Isolation Resistance: 10GOhm; Technical Reference: X7R0402223K010DFCT10000; Capacitance: 22nF; Ceramic Type: X7R; ComponentLink1Description: Manufacturer Link; ComponentLink1URL: http://www.we-online.de; ComponentLink2Description: Datasheet; ComponentLink2URL: https://www.we-online.com/catalog/datasheet/885012205014.pdf; Height: 0.5mm; Length: 1mm; Mounting Technology: SMT; Operating Temperature max.: 125C; Operating Temperature min.: -55C; Packaging: Tape and Reel; Rated Voltage: 10V; Size: 0402; Width: 0.5mm
footprint WCAP-CSGP_0402_L1W0.5H0.5
pins: 1, 2

## 885012205015
designator C?, comment 33nF, 10V
WCAP-CSGP Multilayer Ceramic Chip Capacitor, General Purpose, size 0402, X7R, 33nF, 10V; Manufacturer: Wurth Elektronik; Manufacturer Part Number: 885012205015; Capacitance Tolerance: +/-10%; Dissipation Factor: 5%; Isolation Resistance: 10GOhm; Technical Reference: X7R0402333K010DFCT10000; Capacitance: 33nF; Ceramic Type: X7R; ComponentLink1Description: Manufacturer Link; ComponentLink1URL: http://www.we-online.de; ComponentLink2Description: Datasheet; ComponentLink2URL: https://www.we-online.com/catalog/datasheet/885012205015.pdf; Height: 0.5mm; Length: 1mm; Mounting Technology: SMT; Operating Temperature max.: 125C; Operating Temperature min.: -55C; Packaging: Tape and Reel; Rated Voltage: 10V; Size: 0402; Width: 0.5mm
footprint WCAP-CSGP_0402_L1W0.5H0.5
pins: 1, 2

## 885012205016
designator C?, comment 47nF, 10V
WCAP-CSGP Multilayer Ceramic Chip Capacitor, General Purpose, size 0402, X7R, 47nF, 10V; Manufacturer: Wurth Elektronik; Manufacturer Part Number: 885012205016; Capacitance Tolerance: +/-10%; Dissipation Factor: 5%; Isolation Resistance: 10GOhm; Technical Reference: X7R0402473K010DFCT10000; Capacitance: 47nF; Ceramic Type: X7R; ComponentLink1Description: Manufacturer Link; ComponentLink1URL: http://www.we-online.de; ComponentLink2Description: Datasheet; ComponentLink2URL: https://www.we-online.com/catalog/datasheet/885012205016.pdf; Height: 0.5mm; Length: 1mm; Mounting Technology: SMT; Operating Temperature max.: 125C; Operating Temperature min.: -55C; Packaging: Tape and Reel; Rated Voltage: 10V; Size: 0402; Width: 0.5mm
footprint WCAP-CSGP_0402_L1W0.5H0.5
pins: 1, 2

## 885012205017
designator C?, comment 68nF, 10V
WCAP-CSGP Multilayer Ceramic Chip Capacitor, General Purpose, size 0402, X7R, 68nF, 10V; Manufacturer: Wurth Elektronik; Manufacturer Part Number: 885012205017; Capacitance Tolerance: +/-10%; Dissipation Factor: 5%; Isolation Resistance: 7.4GOhm; Technical Reference: X7R0402683K010DFCT10000; Capacitance: 68nF; Ceramic Type: X7R; ComponentLink1Description: Manufacturer Link; ComponentLink1URL: http://www.we-online.de; ComponentLink2Description: Datasheet; ComponentLink2URL: https://www.we-online.com/catalog/datasheet/885012205017.pdf; Height: 0.5mm; Length: 1mm; Mounting Technology: SMT; Operating Temperature max.: 125C; Operating Temperature min.: -55C; Packaging: Tape and Reel; Rated Voltage: 10V; Size: 0402; Width: 0.5mm
footprint WCAP-CSGP_0402_L1W0.5H0.5
pins: 1, 2

## 885012205018
designator C?, comment 100nF, 10V
WCAP-CSGP Multilayer Ceramic Chip Capacitor, General Purpose, size 0402, X7R, 100nF, 10V; Manufacturer: Wurth Elektronik; Manufacturer Part Number: 885012205018; Capacitance Tolerance: +/-10%; Dissipation Factor: 5%; Isolation Resistance: 5GOhm; Technical Reference: X7R0402104K010DFCT10000; Capacitance: 100nF; Ceramic Type: X7R; ComponentLink1Description: Manufacturer Link; ComponentLink1URL: http://www.we-online.de; ComponentLink2Description: Datasheet; ComponentLink2URL: https://www.we-online.com/catalog/datasheet/885012205018.pdf; Height: 0.5mm; Length: 1mm; Mounting Technology: SMT; Operating Temperature max.: 125C; Operating Temperature min.: -55C; Packaging: Tape and Reel; Rated Voltage: 10V; Size: 0402; Width: 0.5mm
footprint WCAP-CSGP_0402_L1W0.5H0.5
pins: 1, 2

## 885012205019
designator C?, comment 100pF, 16V
WCAP-CSGP Multilayer Ceramic Chip Capacitor, General Purpose, size 0402, X7R, 100pF, 16V; Manufacturer: Wurth Elektronik; Manufacturer Part Number: 885012205019; Capacitance Tolerance: +/-10%; Dissipation Factor: 3.5%; Isolation Resistance: 10GOhm; Technical Reference: X7R0402101K016DFCT10000; Capacitance: 100pF; Ceramic Type: X7R; ComponentLink1Description: Manufacturer Link; ComponentLink1URL: http://www.we-online.de; ComponentLink2Description: Datasheet; ComponentLink2URL: https://www.we-online.com/catalog/datasheet/885012205019.pdf; Height: 0.5mm; Length: 1mm; Mounting Technology: SMT; Operating Temperature max.: 125C; Operating Temperature min.: -55C; Packaging: Tape and Reel; Rated Voltage: 16V; Size: 0402; Width: 0.5mm
footprint WCAP-CSGP_0402_L1W0.5H0.5
pins: 1, 2

## 885012205020
designator C?, comment 150pF, 16V
WCAP-CSGP Multilayer Ceramic Chip Capacitor, General Purpose, size 0402, X7R, 150pF, 16V; Manufacturer: Wurth Elektronik; Manufacturer Part Number: 885012205020; Capacitance Tolerance: +/-10%; Dissipation Factor: 3.5%; Isolation Resistance: 10GOhm; Technical Reference: X7R0402151K016DFCT10000; Capacitance: 150pF; Ceramic Type: X7R; ComponentLink1Description: Manufacturer Link; ComponentLink1URL: http://www.we-online.de; ComponentLink2Description: Datasheet; ComponentLink2URL: https://www.we-online.com/catalog/datasheet/885012205020.pdf; Height: 0.5mm; Length: 1mm; Mounting Technology: SMT; Operating Temperature max.: 125C; Operating Temperature min.: -55C; Packaging: Tape and Reel; Rated Voltage: 16V; Size: 0402; Width: 0.5mm
footprint WCAP-CSGP_0402_L1W0.5H0.5
pins: 1, 2

## 885012205021
designator C?, comment 220pF, 16V
WCAP-CSGP Multilayer Ceramic Chip Capacitor, General Purpose, size 0402, X7R, 220pF, 16V; Manufacturer: Wurth Elektronik; Manufacturer Part Number: 885012205021; Capacitance Tolerance: +/-10%; Dissipation Factor: 3.5%; Isolation Resistance: 10GOhm; Technical Reference: X7R0402221K016DFCT10000; Capacitance: 220pF; Ceramic Type: X7R; ComponentLink1Description: Manufacturer Link; ComponentLink1URL: http://www.we-online.de; ComponentLink2Description: Datasheet; ComponentLink2URL: https://www.we-online.com/catalog/datasheet/885012205021.pdf; Height: 0.5mm; Length: 1mm; Mounting Technology: SMT; Operating Temperature max.: 125C; Operating Temperature min.: -55C; Packaging: Tape and Reel; Rated Voltage: 16V; Size: 0402; Width: 0.5mm
footprint WCAP-CSGP_0402_L1W0.5H0.5
pins: 1, 2

## 885012205022
designator C?, comment 330pF, 16V
WCAP-CSGP Multilayer Ceramic Chip Capacitor, General Purpose, size 0402, X7R, 330pF, 16V; Manufacturer: Wurth Elektronik; Manufacturer Part Number: 885012205022; Capacitance Tolerance: +/-10%; Dissipation Factor: 3.5%; Isolation Resistance: 10GOhm; Technical Reference: X7R0402331K016DFCT10000; Capacitance: 330pF; Ceramic Type: X7R; ComponentLink1Description: Manufacturer Link; ComponentLink1URL: http://www.we-online.de; ComponentLink2Description: Datasheet; ComponentLink2URL: https://www.we-online.com/catalog/datasheet/885012205022.pdf; Height: 0.5mm; Length: 1mm; Mounting Technology: SMT; Operating Temperature max.: 125C; Operating Temperature min.: -55C; Packaging: Tape and Reel; Rated Voltage: 16V; Size: 0402; Width: 0.5mm
footprint WCAP-CSGP_0402_L1W0.5H0.5
pins: 1, 2

## 885012205023
designator C?, comment 470pF, 16V
WCAP-CSGP Multilayer Ceramic Chip Capacitor, General Purpose, size 0402, X7R, 470pF, 16V; Manufacturer: Wurth Elektronik; Manufacturer Part Number: 885012205023; Capacitance Tolerance: +/-10%; Dissipation Factor: 3.5%; Isolation Resistance: 10GOhm; Technical Reference: X7R0402471K016DFCT10000; Capacitance: 470pF; Ceramic Type: X7R; ComponentLink1Description: Manufacturer Link; ComponentLink1URL: http://www.we-online.de; ComponentLink2Description: Datasheet; ComponentLink2URL: https://www.we-online.com/catalog/datasheet/885012205023.pdf; Height: 0.5mm; Length: 1mm; Mounting Technology: SMT; Operating Temperature max.: 125C; Operating Temperature min.: -55C; Packaging: Tape and Reel; Rated Voltage: 16V; Size: 0402; Width: 0.5mm
footprint WCAP-CSGP_0402_L1W0.5H0.5
pins: 1, 2

## 885012205024
designator C?, comment 680pF, 16V
WCAP-CSGP Multilayer Ceramic Chip Capacitor, General Purpose, size 0402, X7R, 680pF, 16V; Manufacturer: Wurth Elektronik; Manufacturer Part Number: 885012205024; Capacitance Tolerance: +/-10%; Dissipation Factor: 3.5%; Isolation Resistance: 10GOhm; Technical Reference: X7R0402681K016DFCT10000; Capacitance: 680pF; Ceramic Type: X7R; ComponentLink1Description: Manufacturer Link; ComponentLink1URL: http://www.we-online.de; ComponentLink2Description: Datasheet; ComponentLink2URL: https://www.we-online.com/catalog/datasheet/885012205024.pdf; Height: 0.5mm; Length: 1mm; Mounting Technology: SMT; Operating Temperature max.: 125C; Operating Temperature min.: -55C; Packaging: Tape and Reel; Rated Voltage: 16V; Size: 0402; Width: 0.5mm
footprint WCAP-CSGP_0402_L1W0.5H0.5
pins: 1, 2

## 885012205025
designator C?, comment 1nF, 16V
WCAP-CSGP Multilayer Ceramic Chip Capacitor, General Purpose, size 0402, X7R, 1nF, 16V; Manufacturer: Wurth Elektronik; Manufacturer Part Number: 885012205025; Capacitance Tolerance: +/-10%; Dissipation Factor: 3.5%; Isolation Resistance: 10GOhm; Technical Reference: X7R0402102K016DFCT10000; Capacitance: 1nF; Ceramic Type: X7R; ComponentLink1Description: Manufacturer Link; ComponentLink1URL: http://www.we-online.de; ComponentLink2Description: Datasheet; ComponentLink2URL: https://www.we-online.com/catalog/datasheet/885012205025.pdf; Height: 0.5mm; Length: 1mm; Mounting Technology: SMT; Operating Temperature max.: 125C; Operating Temperature min.: -55C; Packaging: Tape and Reel; Rated Voltage: 16V; Size: 0402; Width: 0.5mm
footprint WCAP-CSGP_0402_L1W0.5H0.5
pins: 1, 2

## 885012205026
designator C?, comment 1.5nF, 16V
WCAP-CSGP Multilayer Ceramic Chip Capacitor, General Purpose, size 0402, X7R, 1.5nF, 16V; Manufacturer: Wurth Elektronik; Manufacturer Part Number: 885012205026; Capacitance Tolerance: +/-10%; Dissipation Factor: 3.5%; Isolation Resistance: 10GOhm; Technical Reference: X7R0402152K016DFCT10000; Capacitance: 1.5nF; Ceramic Type: X7R; ComponentLink1Description: Manufacturer Link; ComponentLink1URL: http://www.we-online.de; ComponentLink2Description: Datasheet; ComponentLink2URL: https://www.we-online.com/catalog/datasheet/885012205026.pdf; Height: 0.5mm; Length: 1mm; Mounting Technology: SMT; Operating Temperature max.: 125C; Operating Temperature min.: -55C; Packaging: Tape and Reel; Rated Voltage: 16V; Size: 0402; Width: 0.5mm
footprint WCAP-CSGP_0402_L1W0.5H0.5
pins: 1, 2

## 885012205027
designator C?, comment 2.2nF, 16V
WCAP-CSGP Multilayer Ceramic Chip Capacitor, General Purpose, size 0402, X7R, 2.2nF, 16V; Manufacturer: Wurth Elektronik; Manufacturer Part Number: 885012205027; Capacitance Tolerance: +/-10%; Dissipation Factor: 3.5%; Isolation Resistance: 10GOhm; Technical Reference: X7R0402222K016DFCT10000; Capacitance: 2.2nF; Ceramic Type: X7R; ComponentLink1Description: Manufacturer Link; ComponentLink1URL: http://www.we-online.de; ComponentLink2Description: Datasheet; ComponentLink2URL: https://www.we-online.com/catalog/datasheet/885012205027.pdf; Height: 0.5mm; Length: 1mm; Mounting Technology: SMT; Operating Temperature max.: 125C; Operating Temperature min.: -55C; Packaging: Tape and Reel; Rated Voltage: 16V; Size: 0402; Width: 0.5mm
footprint WCAP-CSGP_0402_L1W0.5H0.5
pins: 1, 2

## 885012205028
designator C?, comment 3.3nF, 16V
WCAP-CSGP Multilayer Ceramic Chip Capacitor, General Purpose, size 0402, X7R, 3.3nF, 16V; Manufacturer: Wurth Elektronik; Manufacturer Part Number: 885012205028; Capacitance Tolerance: +/-10%; Dissipation Factor: 3.5%; Isolation Resistance: 10GOhm; Technical Reference: X7R0402332K016DFCT10000; Capacitance: 3.3nF; Ceramic Type: X7R; ComponentLink1Description: Manufacturer Link; ComponentLink1URL: http://www.we-online.de; ComponentLink2Description: Datasheet; ComponentLink2URL: https://www.we-online.com/catalog/datasheet/885012205028.pdf; Height: 0.5mm; Length: 1mm; Mounting Technology: SMT; Operating Temperature max.: 125C; Operating Temperature min.: -55C; Packaging: Tape and Reel; Rated Voltage: 16V; Size: 0402; Width: 0.5mm
footprint WCAP-CSGP_0402_L1W0.5H0.5
pins: 1, 2

## 885012205029
designator C?, comment 4.7nF, 16V
WCAP-CSGP Multilayer Ceramic Chip Capacitor, General Purpose, size 0402, X7R, 4.7nF, 16V; Manufacturer: Wurth Elektronik; Manufacturer Part Number: 885012205029; Capacitance Tolerance: +/-10%; Dissipation Factor: 3.5%; Isolation Resistance: 10GOhm; Technical Reference: X7R0402472K016DFCT10000; Capacitance: 4.7nF; Ceramic Type: X7R; ComponentLink1Description: Manufacturer Link; ComponentLink1URL: http://www.we-online.de; ComponentLink2Description: Datasheet; ComponentLink2URL: https://www.we-online.com/catalog/datasheet/885012205029.pdf; Height: 0.5mm; Length: 1mm; Mounting Technology: SMT; Operating Temperature max.: 125C; Operating Temperature min.: -55C; Packaging: Tape and Reel; Rated Voltage: 16V; Size: 0402; Width: 0.5mm
footprint WCAP-CSGP_0402_L1W0.5H0.5
pins: 1, 2

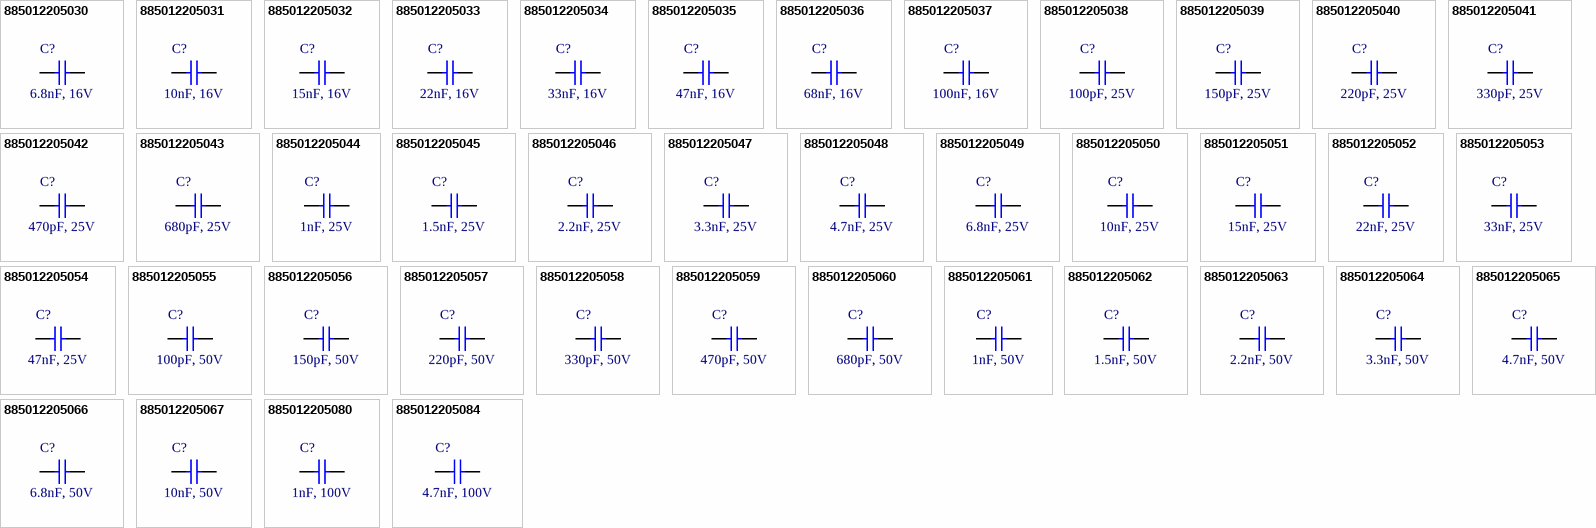
[diagram p3: symbols 885012205030 to 885012205084]